# EAGLE library part 64901021122 (library Wire-to-Board)
WR-MPC4 4.20mm Male Dual Row Vertical Header, 10 Pins=>Code : Con_WTB_MPC4_2_PCB_64901021122 <http://katalog.we-online.de/media/thumbs2/eican/thb_Con_WTB_MPC4_2_PCB_6490xx21122_pf2.jpg> Details see: http://katalog.we-online.de/en/em/649_0xx_211_22 Created 2014-06-06, Karrer Zheng 2014 (C) Würth Elektronik
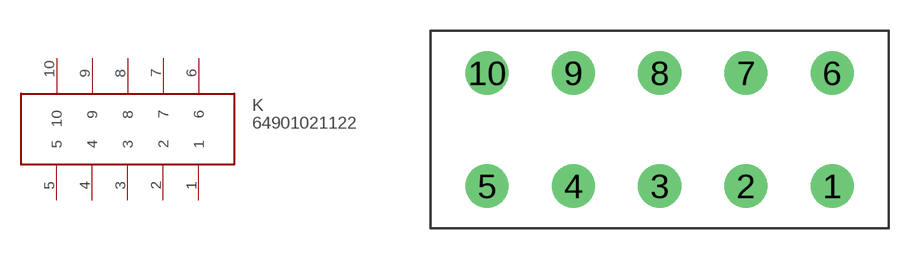
[diagram p286: symbol with the pads of 64901021122; footprint 64901021122]

Designator prefix K

## 64901021122  [64901021122]
1  1
2  2
3  3
4  4
5  5
6  6
7  7
8  8
9  9
10  10

## Footprint 64901021122 (pad centres in mm)
WR-MPC4 4.20mm Male Dual Row Vertical Header, 10 Pins
drill 1.4: 1 0,-2.75; 2 -4.2,-2.75; 3 -8.4,-2.75; 4 -12.6,-2.75; 5 -16.8,-2.75; 6 0,2.75; 7 -4.2,2.75; 8 -8.4,2.75; 9 -12.6,2.75; 10 -16.8,2.75